# EAGLE library part USBCOUT (library MouseLib)
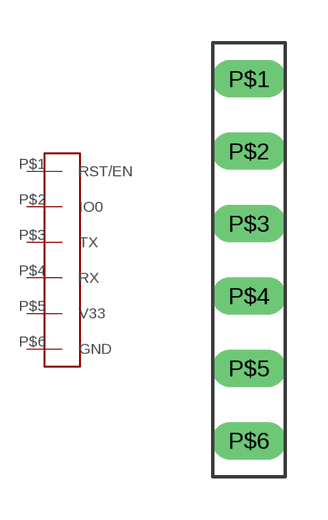
[diagram p12: symbol with the pads of 6PINS; footprint 6PINS]

Designator prefix -

## USBCOUT  [6PINS]
P$1  RST/EN
P$2  IO0
P$3  TX
P$4  RX
P$5  V33
P$6  GND

## Footprint 6PINS (pad centres in mm)
drill 0.8 pad 1.143 long: P$1 -2.54,10.16; P$2 -2.54,7.62; P$3 -2.54,5.08; P$4 -2.54,2.54; P$5 -2.54,0; P$6 -2.54,-2.54